# Altium schematic symbol library 常用原理图库.SchLib: 24 symbols
Pins are listed as number, name and electrical type; pins without a type are passive.

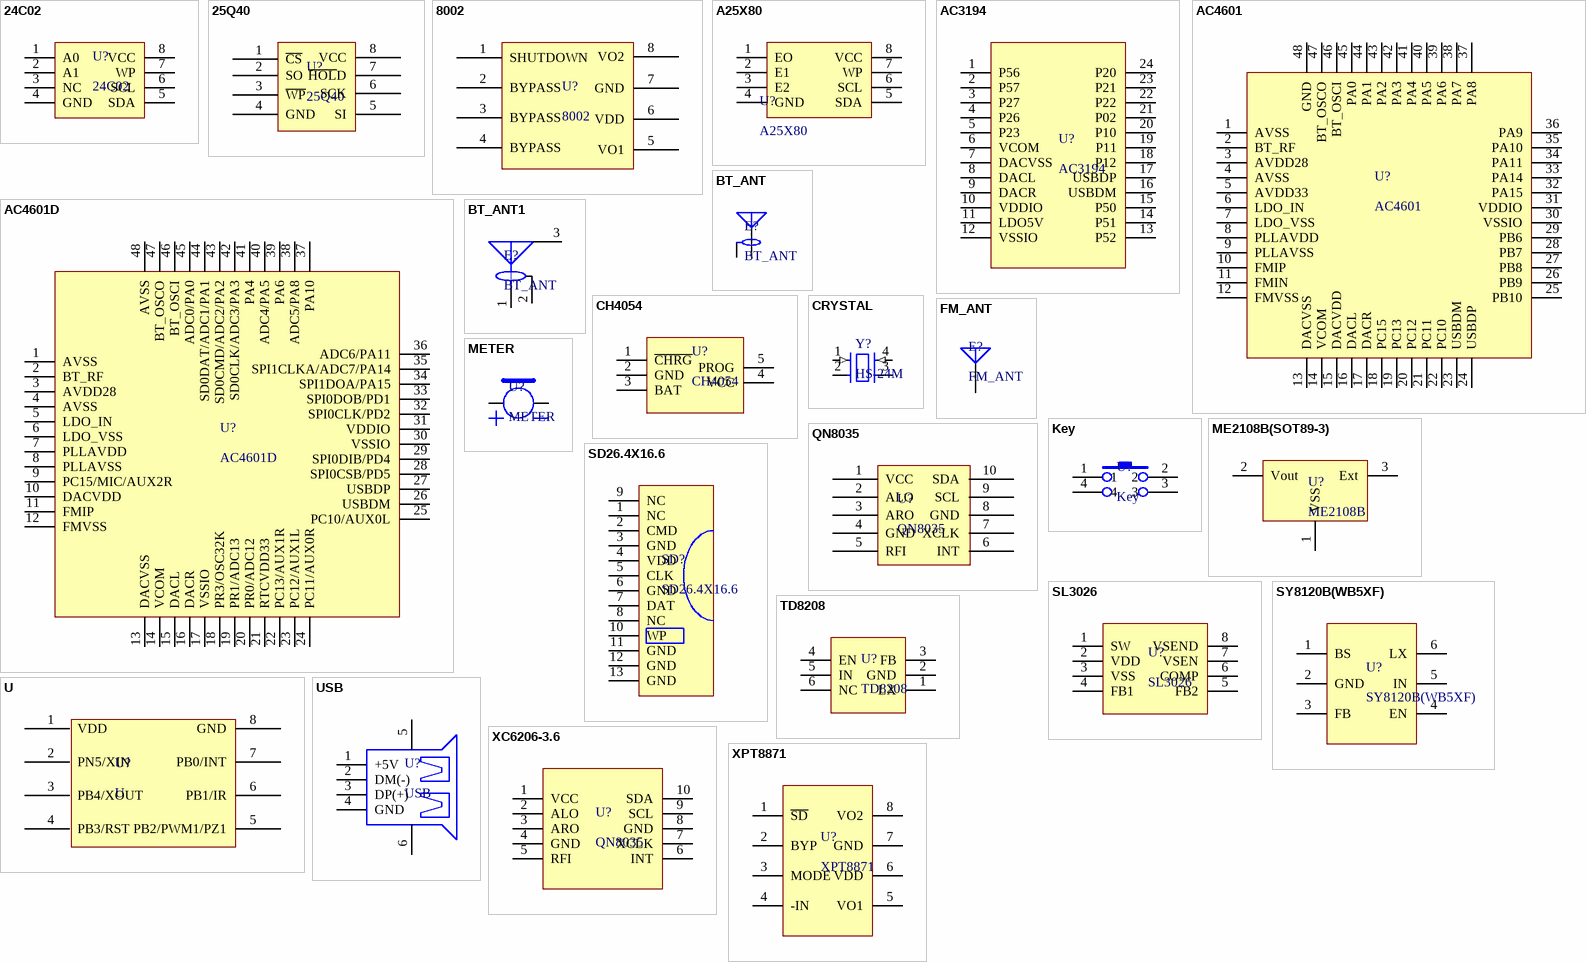
[diagram p0: symbols 24C02 to XPT8871]

## 24C02
designator U?
pins: 1 A0, 2 A1, 3 NC, 4 GND, 5 SDA, 6 SCL, 7 WP, 8 VCC

## 25Q40
designator U?
pins: 1 ~{CS}, 2 SO, 3 ~{WP}, 4 GND, 5 SI, 6 SCK, 7 ~{HOL}D, 8 VCC

## 8002
designator U?
pins: 1 SHUTDOWN, 2 BYPASS, 3 BYPASS, 4 BYPASS, 5 VO1, 6 VDD, 7 GND, 8 VO2

## A25X80
designator U?
footprint SO-8
pins: 1 EO, 2 E1, 3 E2, 4 GND, 5 SDA, 6 SCL, 7 WP, 8 VCC

## AC3194
designator U?
footprint ssop24
footprint SSOP24
pins: 1 P56, 2 P57, 3 P27, 4 P26, 5 P23, 6 VCOM, 7 DACVSS, 8 DACL, 9 DACR, 10 VDDIO, 11 LDO5V, 12 VSSIO, 13 P52, 14 P51, 15 P50, 16 USBDM, 17 USBDP, 18 P12, 19 P11, 20 P10, 21 P02, 22 P22, 23 P21, 24 P20

## AC4601
designator U?
footprint LQFP48
pins: 1 AVSS, 2 BT_RF, 3 AVDD28, 4 AVSS, 5 AVDD33, 6 LDO_IN, 7 LDO_VSS, 8 PLLAVDD, 9 PLLAVSS, 10 FMIP, 11 FMIN, 12 FMVSS, 13 DACVSS, 14 VCOM, 15 DACVDD, 16 DACL, 17 DACR, 18 PC15, 19 PC13, 20 PC12, 21 PC11, 22 PC10, 23 USBDM, 24 USBDP, 25 PB10, 26 PB9, 27 PB8, 28 PB7, 29 PB6, 30 VSSIO, 31 VDDIO, 32 PA15, 33 PA14, 34 PA11, 35 PA10, 36 PA9, 37 PA8, 38 PA7, 39 PA6, 40 PA5, 41 PA4, 42 PA3, 43 PA2, 44 PA1, 45 PA0, 46 BT_OSCI, 47 BT_OSCO, 48 GND

## AC4601D
designator U?
footprint LQFP48
pins: 1 AVSS, 2 BT_RF, 3 AVDD28, 4 AVSS, 5 LDO_IN, 6 LDO_VSS, 7 PLLAVDD, 8 PLLAVSS, 9 PC15/MIC/AUX2R, 10 DACVDD, 11 FMIP, 12 FMVSS, 13 DACVSS, 14 VCOM, 15 DACL, 16 DACR, 17 VSSIO, 18 PR3/OSC32K, 19 PR1/ADC13, 20 PR0/ADC12, 21 RTCVDD33, 22 PC13/AUX1R, 23 PC12/AUX1L, 24 PC11/AUX0R, 25 PC10/AUX0L, 26 USBDM, 27 USBDP, 28 SPI0CSB/PD5, 29 SPI0DIB/PD4, 30 VSSIO, 31 VDDIO, 32 SPI0CLK/PD2, 33 SPI0DOB/PD1, 34 SPI1DOA/PA15, 35 SPI1CLKA/ADC7/PA14, 36 ADC6/PA11, 37 PA10, 38 ADC5/PA8, 39 PA6, 40 ADC4/PA5, 41 PA4, 42 SD0CLK/ADC3/PA3, 43 SD0CMD/ADC2/PA2, 44 SD0DAT/ADC1/PA1, 45 ADC0/PA0, 46 BT_OSCI, 47 BT_OSCO, 48 AVSS

## BT_ANT
designator E?
footprint BT-ANT-4601
footprint 新F天线
pins: 1, 2

## BT_ANT1
designator E?, comment BT_ANT
pins: 1, 2, 3

## CH4054
designator U?
footprint SOT23-5
pins: 1 ~{CHRG}, 2 GND, 3 BAT, 4 VCC, 5 PROG

## CRYSTAL
designator Y?, comment HS-24M
footprint JZ
pins: 1 (in), 2, 3, 4 (in)

## FM_ANT
designator E?
footprint E
pins: 1 A

## Key
designator U?
footprint KEY
pins: 1, 2, 3, 4

## ME2108B(SOT89-3)
designator U?, comment ME2108B
footprint SOT89-3
pins: 1 VSS, 2 Vout, 3 Ext

## METER
designator U?
pins: 1, 2

## QN8035
designator U?
pins: 1 VCC, 2 ALO, 3 ARO, 4 GND, 5 RFI, 6 INT, 7 XCLK, 8 GND, 9 SCL, 10 SDA

## SD26.4X16.6
designator SD?
pins: 1 NC, 2 CMD, 3 GND, 4 VDD, 5 CLK, 6 GND, 7 DAT, 8 NC, 9 NC, 10 WP, 11 GND, 12 GND, 13 GND

## SL3026
designator U?
footprint SOP8-EP
pins: 1 SW, 2 VDD, 3 VSS, 4 FB1, 5 FB2, 6 COMP, 7 VSEN, 8 VSEND

## SY8120B(WB5XF)
designator U?
pins: 1 BS, 2 GND, 3 FB, 4 EN, 5 IN, 6 LX

## TD8208
designator U?
pins: 1 LX, 2 GND, 3 FB, 4 EN, 5 IN, 6 NC

## U
designator U?
pins: 1 VDD, 2 PN5/XIN, 3 PB4/XOUT, 4 PB3/RST, 5 PB2/PWM1/PZ1, 6 PB1/IR, 7 PB0/INT, 8 GND

## USB
designator U?
footprint USB1
footprint USBDIP
pins: 1 +5V, 2 DM(-), 3 DP(+), 4 GND, 5, 6

## XC6206-3.6
designator U?, comment QN8035
footprint QN8035
pins: 1 VCC, 2 ALO, 3 ARO, 4 GND, 5 RFI, 6 INT, 7 XCLK, 8 GND, 9 SCL, 10 SDA

## XPT8871
designator U?
pins: 1 ~{SD}, 2 BYP, 3 MODE, 4 -IN, 5 VO1, 6 VDD, 7 GND, 8 VO2